# Altium footprint library CN_SUBD_9P_FEMALE_EDGE.PcbLib: 1 footprints
Each footprint in its own frame and in the unit in brackets; x right, y up, seen from the top. Pads: shape width x height; smd on the part's side, far side on the other; paste and mask are expansions set on the pad; w line width, h text height; cw(c..) or ccw(c..) is an arc to the next point about the centre after c.
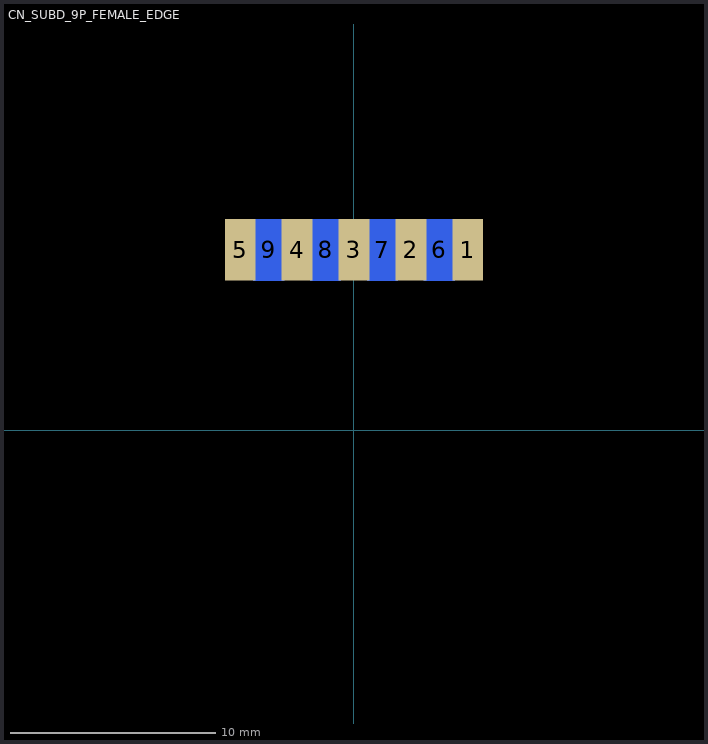
[diagram p0: the footprint, top view; thin cyan lines are the x and y axes]

## CN_SUBD_9P_FEMALE_EDGE [mm]
pads (9):
  rect 1.5x3 smd: 1(5.54,8.8) 2(2.77,8.8) 3(0,8.8) 4(-2.77,8.8) 5(-5.54,8.8)
  rect 1.5x3 smd far side: 6(4.155,8.8) 7(1.385,8.8) 8(-1.385,8.8) 9(-4.155,8.8)
Bottom Overlay:
  lines w0.254: -10,1 -10,6.25 10,6.25 10,1 ; -8.75,0 -8.75,-6 8.75,-6 8.75,0 ; -6.5,6.25 -6.5,9.75 -6.5,11.5 6.5,11.5 6.5,9.75 6.5,6.25 ; -15.5,0 15.5,0 15.5,1 -15.5,1 -15.5,0
3D body: height 5.62, standoff -6.93, extent -15.405,-6 15.405,9.65